# Altium footprint library Charger_CAN_Interface_Board.PcbLib: 20 footprints (part 1 of 2)
Each footprint in its own frame and in the unit in brackets; x right, y up, seen from the top. Pads: shape width x height; smd on the part's side, far side on the other; paste and mask are expansions set on the pad; w line width, h text height; cw(c..) or ccw(c..) is an arc to the next point about the centre after c.
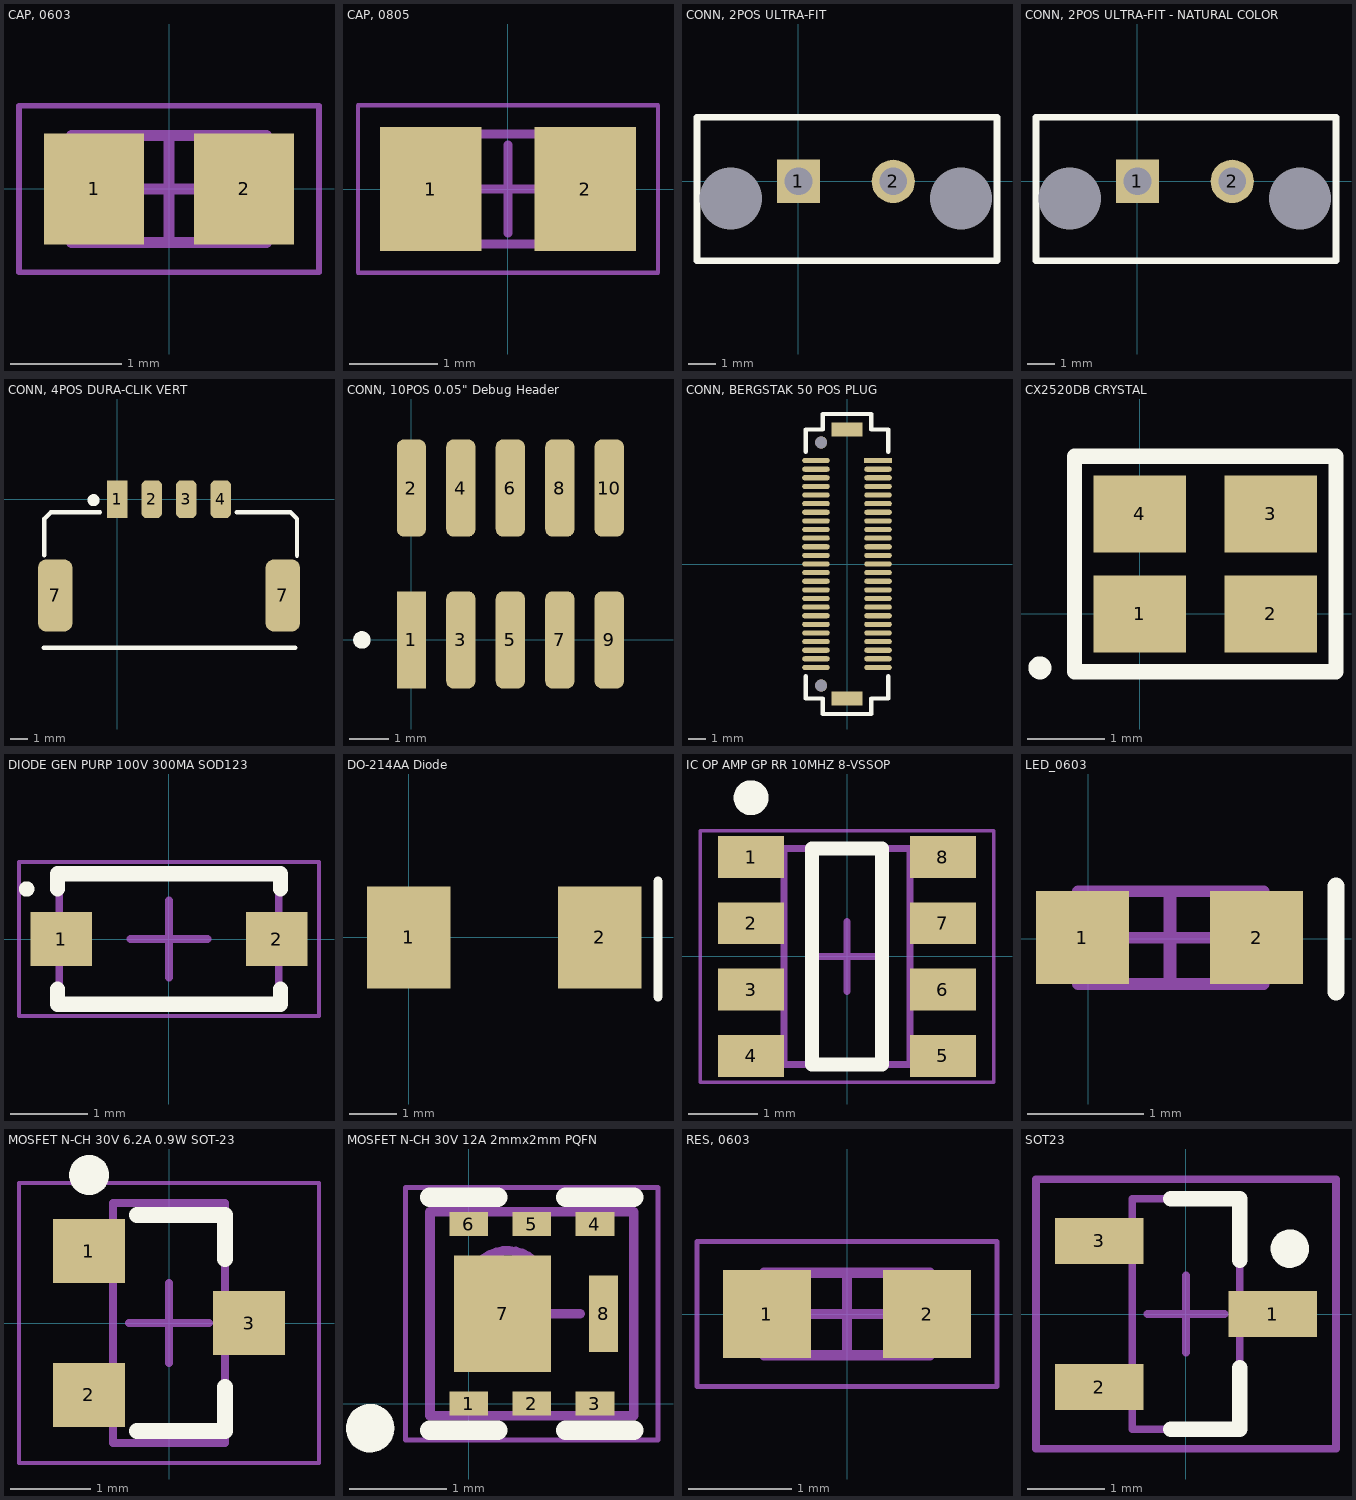
[diagram p0: the footprints below, top view; thin cyan lines are the x and y axes]

## CAP, 0603 [mm]
pads (2):
  rect 0.9x1 smd mask+0.076: 1(-0.675,0) 2(0.675,0)
Mechanical 13:
  lines w0.1: -0.875,-0.48 0.875,-0.48 0.875,0.48 -0.875,0.48 -0.875,-0.48
Mechanical 15:
  lines w0.05: -1.35,-0.75 1.35,-0.75 1.35,0.75 -1.35,0.75 -1.35,-0.75
  lines w0.1: -0.48,0 0.48,0 ; 0,-0.48 0,0.48
3D body "CAPC1608X09N.step": height 0.9, standoff 0, extent -0.875,-0.48 0.875,0.48

## CAP, 0805 [mm]
pads (2):
  rect 1.15x1.4 smd: 1(-0.875,0) 2(0.875,0)
Mechanical 13:
  lines w0.1: -1,-0.625 -1,0.625 1,0.625 1,-0.625 -1,-0.625
Mechanical 15:
  lines w0.05: -1.7,-0.95 -1.7,0.95 1.7,0.95 1.7,-0.95 -1.7,-0.95
  lines w0.1: -0.5,0 0.5,0 ; 0,-0.5 0,0.5
3D body "CAP, 0805.step": height 1.25, standoff 0, extent -1,-0.625 1,0.625

## CONN, 2POS ULTRA-FIT [mm]
pads (4):
  rect 1.6x1.6 hole 1.02: 1(0,0)
  round 1.6 hole 1.02: 2(3.5,0)
  round 1.6 hole 2.3: ""(-2.5,-0.63) ""(6,-0.63)
Top Overlay:
  lines w0.254: 3.5,2.37 7.33,2.37 7.33,-2.93 -3.745,-2.93 -3.745,2.37 4.5,2.37
3D body "1722871102.stp": height 13.85, standoff -3.3, extent -3.482,-2.865 7.118,5.795

## CONN, 2POS ULTRA-FIT - NATURAL COLOR [mm]
pads (4):
  rect 1.6x1.6 hole 1.02: 1(0,0)
  round 1.6 hole 1.02: 2(3.5,0)
  round 1.6 hole 2.3: ""(-2.5,-0.63) ""(6,-0.63)
Top Overlay:
  lines w0.254: 3.5,2.37 7.33,2.37 7.33,-2.93 -3.745,-2.93 -3.745,2.37 4.5,2.37
3D body "1722871102.stp": height 13.85, standoff -3.3, extent -3.482,-2.865 7.118,5.795

## CONN, 4POS DURA-CLIK VERT [mm]
pads (6):
  rect 1.2x2.2 smd: 1(0,0)
  rrect50% 1.2x2.2 smd: 2(2,0) 3(4,0) 4(6,0)
  rrect50% 2x4.2 smd: 7(-3.6,-5.58) 7(9.6,-5.58)
Top Overlay:
  circle w0.5: c-1.375,-0.05 r0.1
  lines w0.254: -4.275,-8.61 10.325,-8.61 ; -4.225,-3.25 -4.225,-1.125 -3.85,-0.75 -1,-0.75 ; 6.925,-0.75 10.05,-0.75 10.425,-1.125 10.425,-3.275
3D body "5600200420.stp": height 8, standoff 0, extent -4.275,-8.61 10.325,0.54

## CONN, 10POS 0.05" Debug Header [mm]
pads (10):
  rect 0.75x2.5 smd: 1(0,0)
  rrect50% 0.75x2.5 smd: 2(0,3.9) 3(1.27,0) 4(1.27,3.9) 5(2.54,0) 6(2.54,3.9) 7(3.81,0) 8(3.81,3.9) 9(5.08,0) 10(5.08,3.9)
Top Overlay:
  circle w0.25: c-1.27,0 r0.1
3D body "20021121-00010XXLFc.stp": height 4.5, standoff 0, extent -0.635,-0.845 5.715,4.655

## CONN, BERGSTAK 50 POS PLUG [mm]
pads (54):
  rect 1.6x0.3 smd: 1(1.8,6)
  oval 1.6x0.3 smd: 2(1.8,5.5) 3(1.8,5) 4(1.8,4.5) 5(1.8,4) 6(1.8,3.5) 7(1.8,3) 8(1.8,2.5) 9(1.8,2) 10(1.8,1.5) 11(1.8,1) 12(1.8,0.5) 13(1.8,0) 14(1.8,-0.5) 15(1.8,-1) 16(1.8,-1.5) 17(1.8,-2) 18(1.8,-2.5) 19(1.8,-3) 20(1.8,-3.5) 21(1.8,-4) 22(1.8,-4.5) 23(1.8,-5) 24(1.8,-5.5) 25(1.8,-6) 26(-1.8,-6) 27(-1.8,-5.5) 28(-1.8,-5) 29(-1.8,-4.5) 30(-1.8,-4) 31(-1.8,-3.5) 32(-1.8,-3) 33(-1.8,-2.5) 34(-1.8,-2) 35(-1.8,-1.5) 36(-1.8,-1) 37(-1.8,-0.5) 38(-1.8,0) 39(-1.8,0.5) 40(-1.8,1) 41(-1.8,1.5) 42(-1.8,2) 43(-1.8,2.5) 44(-1.8,3) 45(-1.8,3.5) 46(-1.8,4) 47(-1.8,4.5) 48(-1.8,5) 49(-1.8,5.5) 50(-1.8,6)
  round 0.7 hole 0.7: ""(-1.5,-7.05) ""(-1.5,7.05)
  rect 1.8x0.8 smd: ""(0,-7.8) ""(0,7.8)
Top Overlay:
  lines w0.254: -2.4,-6.5 -2.4,-7.8 -1.4,-7.8 -1.4,-8.7 1.4,-8.7 1.4,-7.8 2.4,-7.8 2.4,-6.5 ; -2.4,6.5 -2.4,7.8 -1.4,7.8 -1.4,8.7 1.4,8.7 1.4,7.8 2.4,7.8 2.4,6.5
3D body "10132797-055100LF.stp": height 4.2, standoff -0.6, extent -2.3,-7.75 2.3,7.75

## CX2520DB CRYSTAL [mm]
pads (4):
  rect 1.2x1 smd: 1(0,0) 2(1.7,0) 3(1.7,1.3) 4(0,1.3)
Top Overlay:
  circle w0.2: c-1.3,-0.7 r0.05
  lines w0.2: -0.85,-0.75 -0.85,2.05 2.55,2.05 2.55,-0.75 -0.85,-0.75
3D body: height 0.5, standoff 0, extent -0.4,-0.35 2.1,1.65

## DIODE GEN PURP 100V 300MA SOD123 [mm]
pads (2):
  rect 0.8x0.7 smd: 1(-1.4,0) 2(1.4,0)
Top Overlay:
  circle w0.1: c-1.85,0.65 r0.05
  lines w0.2: -1.45,-0.65 -1.45,-0.85 1.45,-0.85 1.45,-0.65 ; -1.45,0.65 -1.45,0.85 1.45,0.85 1.45,0.65
Mechanical 13:
  lines w0.1: -1.425,-0.85 1.425,-0.85 1.425,0.85 -1.425,0.85 -1.425,-0.85
Mechanical 15:
  lines w0.05: -1.95,-1 1.95,-1 1.95,1 -1.95,1 -1.95,-1
  lines w0.1: -0.5,0 0.5,0 ; 0,-0.5 0,0.5
3D body "DIODE GEN PURP 100V 300MA SOD123.step": height 1.35, standoff 0, extent -1.425,-0.85 1.425,0.85

## DO-214AA Diode [mil]
pads (2):
  rect 70x85 smd: 1(0,0) 2(160,0)
Top Overlay:
  lines w7.87: 208.66,-49.76 208.66,47.24
3D body "Diode SMA.stp": height 94.95, standoff 0, extent -21.26,-59.85 186.61,55.12

## IC OP AMP GP RR 10MHZ 8-VSSOP [mm]
pads (8):
  rect 0.95x0.6 smd: 1(-1.375,1.425) 2(-1.375,0.475) 3(-1.375,-0.475) 4(-1.375,-1.425) 5(1.375,-1.425) 6(1.375,-0.475) 7(1.375,0.475) 8(1.375,1.425)
Top Overlay:
  circle w0.25: c-1.375,2.275 r0.125
  lines w0.2: -0.5,-1.55 -0.5,1.55 0.5,1.55 0.5,-1.55 -0.5,-1.55
Mechanical 13:
  lines w0.1: -0.9,-1.55 -0.9,1.55 0.9,1.55 0.9,-1.55 -0.9,-1.55
Mechanical 15:
  lines w0.05: -2.1,-1.8 -2.1,1.8 2.1,1.8 2.1,-1.8 -2.1,-1.8
  lines w0.1: -0.5,0 0.5,0 ; 0,-0.5 0,0.5
3D body "IC OP AMP GP RR 10MHZ 8-VSSOP  .step": height 1.45, standoff 0.01, extent -1.393,-1.625 1.393,1.625

## LED_0603 [mm]
pads (2):
  rect 0.8x0.8 smd: 1(-0.05,0.01) 2(1.45,0.01)
Top Overlay:
  lines w0.15: 2.134,-0.457 2.134,0.453
Mechanical 13:
  rectangle: 1.296,-0.39 1.511,0.41
  lines w0.1: -0.089,-0.39 -0.089,0.41 1.511,0.41 1.511,-0.39 -0.089,-0.39
Mechanical 15:
  lines w0.1: 0.3,0.01 1.1,0.01 ; 0.311,0.01 1.111,0.01 ; 0.7,-0.39 0.7,0.41 ; 0.711,-0.39 0.711,0.41
3D body: height 0.8, standoff 0.3, extent 0.203,-0.295 1.219,0.315
3D body: height 0.3, standoff 0, extent -0.089,-0.39 1.511,0.41

## MOSFET N-CH 30V 6.2A 0.9W SOT-23 [mm]
pads (3):
  rect 0.9x0.8 smd: 1(-1,0.9) 2(-1,-0.9) 3(1,0)
Top Overlay:
  circle w0.25: c-1,1.85 r0.125
  lines w0.2: -0.4,-1.35 0.7,-1.35 0.7,-0.8 ; -0.4,1.35 0.7,1.35 0.7,0.8
Mechanical 13:
  lines w0.1: -0.7,-1.5 -0.7,1.5 0.7,1.5 0.7,-1.5 -0.7,-1.5
Mechanical 15:
  lines w0.05: -1.875,-1.75 -1.875,1.75 1.875,1.75 1.875,-1.75 -1.875,-1.75
  lines w0.1: -0.5,0 0.5,0 ; 0,-0.5 0,0.5
3D body "MOSFET N-CH 30V.step": height 1.1, standoff 0, extent -1.25,-1.5 1.25,1.5

## MOSFET N-CH 30V 12A 2mmx2mm PQFN [mm]
pads (8):
  rect 0.4x0.25 smd: 1(0,0) 2(0.65,0) 3(1.3,0) 4(1.3,1.85) 5(0.65,1.85) 6(0,1.85)
  rect 1x1.2 smd: 7(0.35,0.925)
  rect 0.3x0.79 smd: 8(1.39,0.925)
Top Overlay:
  circle w0.25: c-1.016,-0.254 r0.125
  lines w0.2: -0.4,-0.275 0.3,-0.275 ; -0.4,2.125 0.3,2.125 ; 1,-0.275 1.7,-0.275 ; 1,2.125 1.7,2.125
Mechanical 13:
  circle w0.1: c0.4,1.175 r0.4
  lines w0.1: -0.4,-0.125 1.7,-0.125 1.7,1.975 -0.4,1.975 -0.4,-0.125
Mechanical 15:
  lines w0.05: -0.65,-0.375 1.95,-0.375 1.95,2.225 -0.65,2.225 -0.65,-0.375
  lines w0.1: 0.15,0.925 1.15,0.925 ; 0.65,0.425 0.65,1.425
3D body "MOSFET N-CH 30V 12A 2mmx2mm PQFN.step": height 1, standoff 0, extent -0.4,-0.125 1.7,1.975

## RES, 0603 [mm]
pads (2):
  rect 0.85x0.85 smd: 1(-0.775,0) 2(0.775,0)
Mechanical 13:
  lines w0.1: -0.8,-0.4 -0.8,0.4 0.8,0.4 0.8,-0.4 -0.8,-0.4
Mechanical 15:
  lines w0.05: -1.45,-0.7 -1.45,0.7 1.45,0.7 1.45,-0.7 -1.45,-0.7
  lines w0.1: -0.4,0 0.4,0 ; 0,-0.4 0,0.4
3D body "RESC1608X06N.step": height 0.55, standoff 0, extent -0.8,-0.4 0.8,0.4

## SOT23 [mm]
pads (3):
  rect 1.15x0.6 smd: 1(1.125,0) 2(-1.125,-0.95) 3(-1.125,0.95)
Top Overlay:
  circle w0.25: c1.35,0.85 r0.125
  lines w0.2: -0.2,-1.5 0.7,-1.5 0.7,-0.7 ; -0.2,1.5 0.7,1.5 0.7,0.7
Mechanical 13:
  lines w0.1: -0.7,-1.5 0.7,-1.5 0.7,1.5 -0.7,1.5 -0.7,-1.5
Mechanical 15:
  lines w0.1: -0.5,0 0.5,0 ; 0,-0.5 0,0.5 ; -1.95,-1.75 1.95,-1.75 1.95,1.75 -1.95,1.75 -1.95,-1.75
3D body: height 1.1, standoff 0, extent -0.7,-1.5 0.7,1.5